# EAGLE library part BA_HEADER_6P (library con-misc)
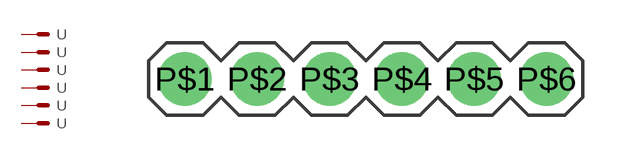
[diagram p3: symbol with the pads of BA_HEADER_6P; footprint BA_HEADER_6P]

Designator prefix -

## BA_HEADER_6P  [BA_HEADER_6P]
P$1  S  pas
P$2  S1  pas
P$3  S2  pas
P$4  S3  pas
P$5  S4  pas
P$6  S5  pas

## Footprint BA_HEADER_6P (pad centres in mm)
drill 1.06 pad 1.88: P$1 -6.35,0; P$2 -3.81,0; P$3 -1.27,0; P$4 1.27,0; P$5 3.81,0; P$6 6.35,0